# Altium footprint library 691 701 520 0xx B.PcbLib: 11 footprints
Each footprint in its own frame and in the unit in brackets; x right, y up, seen from the top. Pads: shape width x height; smd on the part's side, far side on the other; paste and mask are expansions set on the pad; w line width, h text height; cw(c..) or ccw(c..) is an arc to the next point about the centre after c.
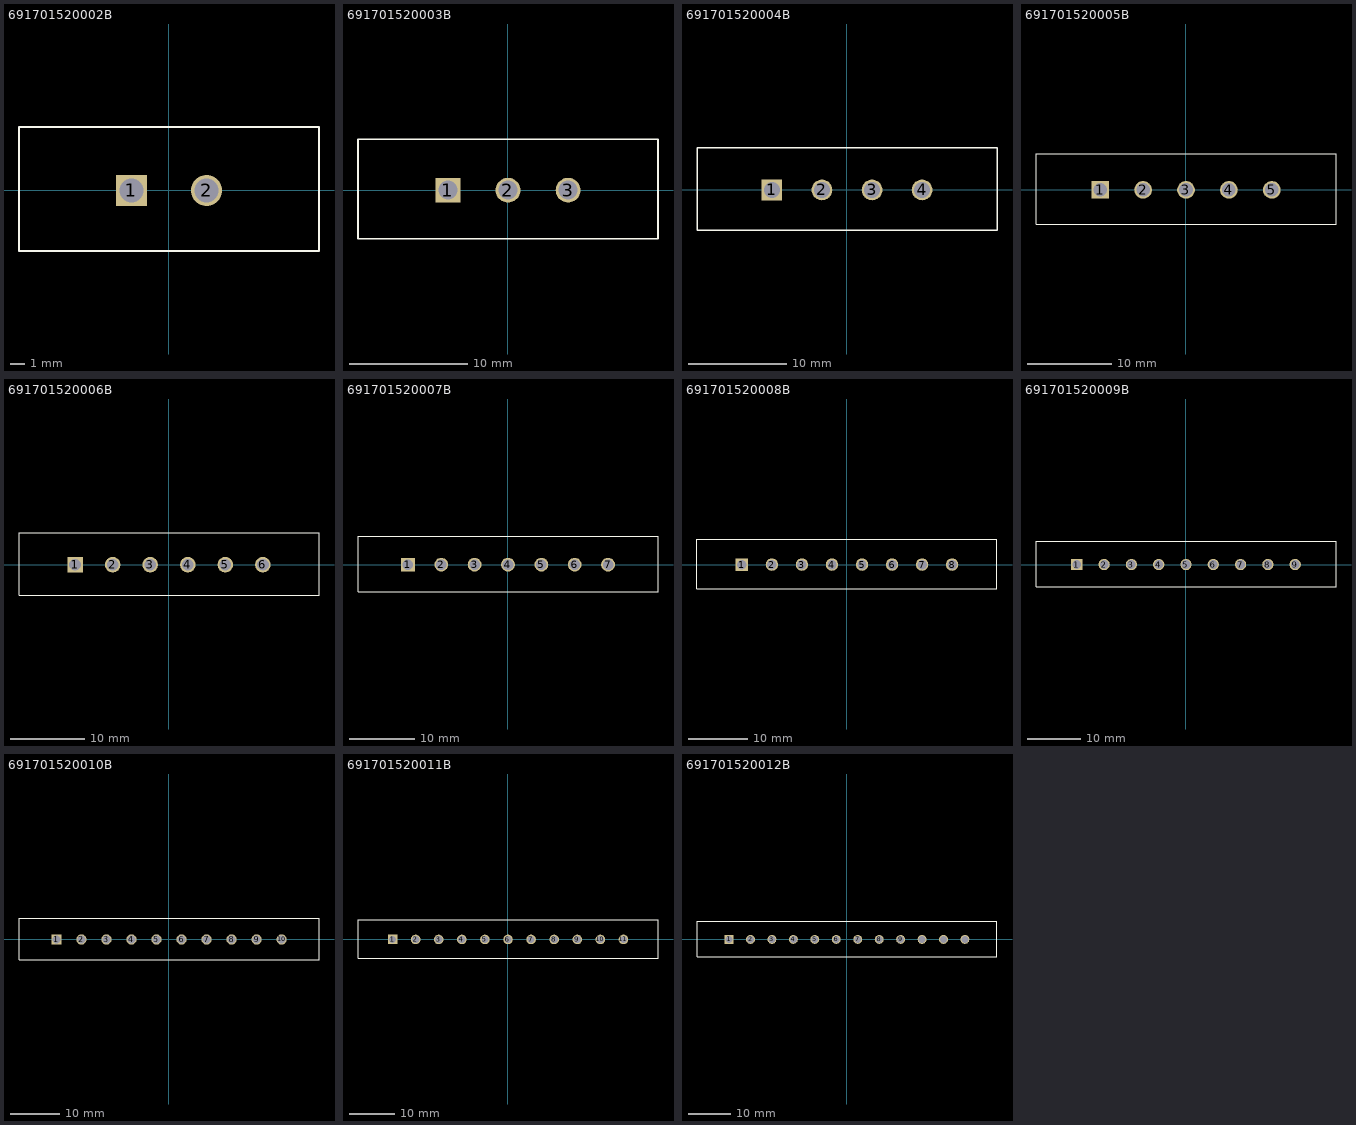
[diagram p0: the footprints below, top view; thin cyan lines are the x and y axes]

## 691701520002B [mm] "THR - 5,08mm - PCB Vertical Flange - 02p"
height 12
pads (2):
  rect 2.1x2.1 hole 1.6: 1(-2.54,0)
  round 2.1 hole 1.6: 2(2.54,0)
Top Overlay:
  lines w0.127: -4.84,-4.1 10.14,-4.1 ; -10.14,-4.1 -10.14,4.3 ; -10.14,-4.1 10.14,-4.1 ; -10.14,-4.1 10.14,-4.1 ; -10.14,-4.1 -10.14,4.3 ; -10.14,4.3 10.14,4.3 ; -10.14,4.3 10.14,4.3 ; 10.14,-4.1 10.14,4.3 ; 10.14,-4.1 10.14,4.3
3D body: height 12.1, standoff -2.5, extent -10.16,-3.8 10.16,4.7

## 691701520003B [mm] "THR - 5,08mm - PCB Vertical Flange - 03p"
height 12
pads (3):
  rect 2.1x2.1 hole 1.6: 1(-5.08,0)
  round 2.1 hole 1.6: 2(0,0) 3(5.08,0)
Top Overlay:
  lines w0.127: -12.68,-4.1 -12.68,4.3 ; -12.68,-4.1 12.68,-4.1 ; -12.68,-4.1 12.68,-4.1 ; -12.68,-4.1 -12.68,4.3 ; -12.68,4.3 12.68,4.3 ; -12.68,4.3 12.68,4.3 ; 12.68,-4.1 12.68,4.3 ; 12.68,-4.1 12.68,4.3
3D body: height 12.1, standoff -2.5, extent -12.7,-3.9 12.7,4.6

## 691701520004B [mm] "THR - 5,08mm - PCB Vertical Flange - 04p"
height 12
pads (4):
  rect 2.1x2.1 hole 1.6: 1(-7.62,0)
  round 2.1 hole 1.6: 2(-2.54,0) 3(2.54,0) 4(7.62,0)
Top Overlay:
  lines w0.127: -15.22,-4.1 -15.22,4.3 ; -15.22,-4.1 15.22,-4.1 ; -15.22,-4.1 15.22,-4.1 ; -15.22,-4.1 -15.22,4.3 ; -15.22,4.3 15.22,4.3 ; -15.22,4.3 15.22,4.3 ; 15.22,-4.1 15.22,4.3 ; 15.22,-4.1 15.22,4.3
3D body: height 12.1, standoff -2.5, extent -15.24,-3.9 15.24,4.6

## 691701520005B [mm] "THR - 5,08mm - PCB Vertical Flange - 05p"
height 12
pads (5):
  rect 2.1x2.1 hole 1.6: 1(-10.16,0)
  round 2.1 hole 1.6: 2(-5.08,0) 3(0,0) 4(5.08,0) 5(10.16,0)
Top Overlay:
  lines w0.127: -17.76,-4.1 -17.76,4.3 ; -17.76,-4.1 17.76,-4.1 ; -17.76,-4.1 17.76,-4.1 ; -17.76,-4.1 -17.76,4.3 ; -17.76,4.3 17.76,4.3 ; -17.76,4.3 17.76,4.3 ; 17.76,-4.1 17.76,4.3 ; 17.76,-4.1 17.76,4.3
3D body: height 12.1, standoff -2.5, extent -17.88,-3.9 17.68,4.6

## 691701520006B [mm] "THR - 5,08mm - PCB Vertical Flange - 06p"
height 12
pads (6):
  rect 2.1x2.1 hole 1.6: 1(-12.7,0)
  round 2.1 hole 1.6: 2(-7.62,0) 3(-2.54,0) 4(2.54,0) 5(7.62,0) 6(12.7,0)
Top Overlay:
  lines w0.127: -20.3,-4.1 -20.3,4.3 ; -20.3,-4.1 20.3,-4.1 ; -20.3,-4.1 20.3,-4.1 ; -20.3,-4.1 -20.3,4.3 ; -20.3,4.3 20.3,4.3 ; -20.3,4.3 20.3,4.3 ; 20.3,-4.1 20.3,4.3 ; 20.3,-4.1 20.3,4.3
3D body: height 12.1, standoff -2.5, extent -20.32,-3.9 20.32,4.6

## 691701520007B [mm] "THR - 5,08mm - PCB Vertical Flange - 07p"
height 12
pads (7):
  rect 2.1x2.1 hole 1.6: 1(-15.24,0)
  round 2.1 hole 1.6: 2(-10.16,0) 3(-5.08,0) 4(0,0) 5(5.08,0) 6(10.16,0) 7(15.24,0)
Top Overlay:
  lines w0.127: -22.84,-4.1 -22.84,4.3 ; -22.84,-4.1 22.84,-4.1 ; -22.84,-4.1 22.84,-4.1 ; -22.84,-4.1 -22.84,4.3 ; -22.84,4.3 22.84,4.3 ; -22.84,4.3 22.84,4.3 ; 22.84,-4.1 22.84,4.3 ; 22.84,-4.1 22.84,4.3
3D body: height 12.1, standoff -2.5, extent -22.86,-3.9 22.86,4.6

## 691701520008B [mm] "THR - 5,08mm - PCB Vertical Flange - 08p"
height 12
pads (8):
  rect 2.1x2.1 hole 1.6: 1(-17.78,0)
  round 2.1 hole 1.6: 2(-12.7,0) 3(-7.62,0) 4(-2.54,0) 5(2.54,0) 6(7.62,0) 7(12.7,0) 8(17.78,0)
Top Overlay:
  lines w0.127: -25.38,-4.1 -25.38,4.3 ; -25.38,-4.1 25.38,-4.1 ; -25.38,-4.1 25.38,-4.1 ; -25.38,-4.1 -25.38,4.3 ; -25.38,4.3 25.38,4.3 ; -25.38,4.3 25.38,4.3 ; 25.38,-4.1 25.38,4.3 ; 25.38,-4.1 25.38,4.3
3D body: height 12.1, standoff -2.5, extent -25.4,-3.95 25.4,4.55

## 691701520009B [mm] "THR - 5,08mm - PCB Vertical Flange - 09p"
height 12
pads (9):
  rect 2.1x2.1 hole 1.6: 1(-20.32,0)
  round 2.1 hole 1.6: 2(-15.24,0) 3(-10.16,0) 4(-5.08,0) 5(0,0) 6(5.08,0) 7(10.16,0) 8(15.24,0) 9(20.32,0)
Top Overlay:
  lines w0.127: -27.92,-4.1 -27.92,4.3 ; -27.92,-4.1 27.92,-4.1 ; -27.92,-4.1 27.92,-4.1 ; -27.92,-4.1 -27.92,4.3 ; -27.92,4.3 27.92,4.3 ; -27.92,4.3 27.92,4.3 ; 27.92,-4.1 27.92,4.3 ; 27.92,-4.1 27.92,4.3
3D body: height 12.1, standoff -2.5, extent -27.94,-3.9 27.94,4.6

## 691701520010B [mm] "THR - 5,08mm - PCB Vertical Flange - 10p"
height 12
pads (10):
  rect 2.1x2.1 hole 1.6: 1(-22.86,0)
  round 2.1 hole 1.6: 2(-17.78,0) 3(-12.7,0) 4(-7.62,0) 5(-2.54,0) 6(2.54,0) 7(7.62,0) 8(12.7,0) 9(17.78,0) 10(22.86,0)
Top Overlay:
  lines w0.127: -30.46,-4.1 -30.46,4.3 ; -30.46,-4.1 30.46,-4.1 ; -30.46,-4.1 30.46,-4.1 ; -30.46,-4.1 -30.46,4.3 ; -30.46,4.3 30.46,4.3 ; -30.46,4.3 30.46,4.3 ; 30.46,-4.1 30.46,4.3 ; 30.46,-4.1 30.46,4.3
3D body: height 12.1, standoff -2.5, extent -30.48,-3.8 30.48,4.7

## 691701520011B [mm] "THR - 5,08mm - PCB Vertical Flange - 11p"
height 12
pads (11):
  rect 2.1x2.1 hole 1.6: 1(-25.4,0)
  round 2.1 hole 1.6: 2(-20.32,0) 3(-15.24,0) 4(-10.16,0) 5(-5.08,0) 6(0,0) 7(5.08,0) 8(10.16,0) 9(15.24,0) 10(20.32,0) 11(25.4,0)
Top Overlay:
  lines w0.127: -33,-4.1 -33,4.3 ; -33,-4.1 33,-4.1 ; -33,-4.1 33,-4.1 ; -33,-4.1 -33,4.3 ; -33,4.3 33,4.3 ; -33,4.3 33,4.3 ; 33,-4.1 33,4.3 ; 33,-4.1 33,4.3
3D body: height 12.1, standoff -2.5, extent -33,-3.95 33.04,4.55

## 691701520012B [mm] "THR - 5,08mm - PCB Vertical Flange - 12p"
height 12
pads (12):
  rect 2.1x2.1 hole 1.6: 1(-27.94,0)
  round 2.1 hole 1.6: 2(-22.86,0) 3(-17.78,0) 4(-12.7,0) 5(-7.62,0) 6(-2.54,0) 7(2.54,0) 8(7.62,0) 9(12.7,0) 10(17.78,0) 11(22.86,0) 12(27.94,0)
Top Overlay:
  lines w0.127: -35.54,-4.1 -35.54,4.3 ; -35.54,-4.1 35.54,-4.1 ; -35.54,-4.1 35.54,-4.1 ; -35.54,-4.1 -35.54,4.3 ; -35.54,4.3 35.54,4.3 ; -35.54,4.3 35.54,4.3 ; 35.54,-4.1 35.54,4.3 ; 35.54,-4.1 35.54,4.3
3D body: height 12.1, standoff -2.5, extent -35.5,-3.9 35.62,4.6